# EAGLE library part CON_7P_2 (library DSS)
PIN HEADER
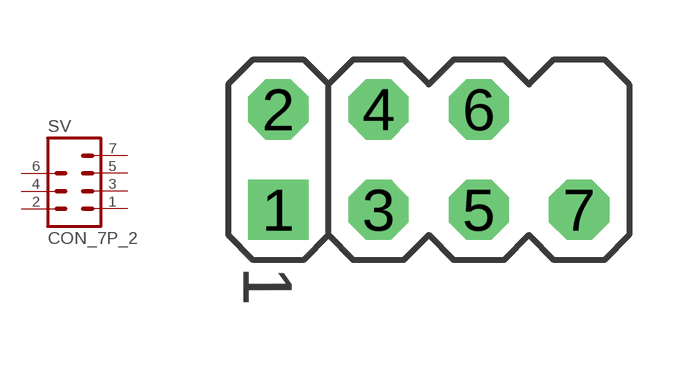
[diagram p15: symbol with the pads of CON_7P_2; footprint CON_7P_2]

Designator prefix SV

## CON_7P_2 (OC_FARNELL: unknown; OC_NEWARK: unknown)  [CON_7P_2]
1  1  pas
2  2  pas
3  3  pas
4  4  pas
5  5  pas
6  6  pas
7  7  pas

## Footprint CON_7P_2 (pad centres in mm)
PIN HEADER
drill 1.016 square: 1 -3.81,-1.27
drill 1.016 octagon: 2 -3.81,1.27; 3 -1.27,-1.27; 4 -1.27,1.27; 5 1.27,-1.27; 6 1.27,1.27; 7 3.81,-1.27